# Altium schematic symbol library EL-sense_Current_Management.SchLib: 2 symbols
Pins are listed as number, name and electrical type; pins without a type are passive.

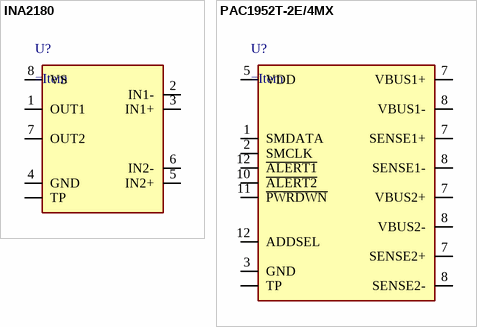
[diagram p0: symbols INA2180 to PAC1952T-2E/4MX]

## INA2180
designator U?
pins: 1 OUT1, 2 IN1-, 3 IN1+, 4 GND, 5 IN2+, 6 IN2-, 7 OUT2, 8 VS, TP

## PAC1952T-2E/4MX
designator U?
pins: 1 SMDATA, 2 SMCLK, 3 GND, 5 VDD, 7 VBUS1+, 7 VBUS2+, 7 SENSE1+, 7 SENSE2+, 8 VBUS1-, 8 VBUS2-, 8 SENSE1-, 8 SENSE2-, 10 ~{ALERT2}, 11 ~{PWRDWN}, 12 ~{ALERT1}, 12 ADDSEL, TP